# EAGLE library part TES5D-* (library _hhn_traco)
Traco(r) Power TES Dual Output Series 5 W DC/DC-Converters, SMD, 2:1 Input (TES 5-xx2y) Author: Dipl.-Ing. FH Rainer Bayer, Hochschule Heilbronn, rainer.bayer@hs-heilbronn.de Note: Applying supply symbols on VIN pins (defined direction is "Pwr") allows different input voltages with multiple converter devices, if needed) TRACO(r) Ordercode : Input V : Output V TES 5-1221 : 12 (9..18) : ±5.0 TES 5-1222 : 12 (9..18) : ±12 TES 5-1223 : 12 (18..36) : ±15 TES 5-2421 : 24 (18..36) : ±5.0 TES 5-2422 : 24 (18..36) : ±12 TES 5-2423 : 24 (18..36) : ±15 TES 5-4821 : 48 (36..75) : ±5.0 TES 5-4822 : 48 (36..75) : ±12 TES 5-4823 : 48 (36..75) : ±15
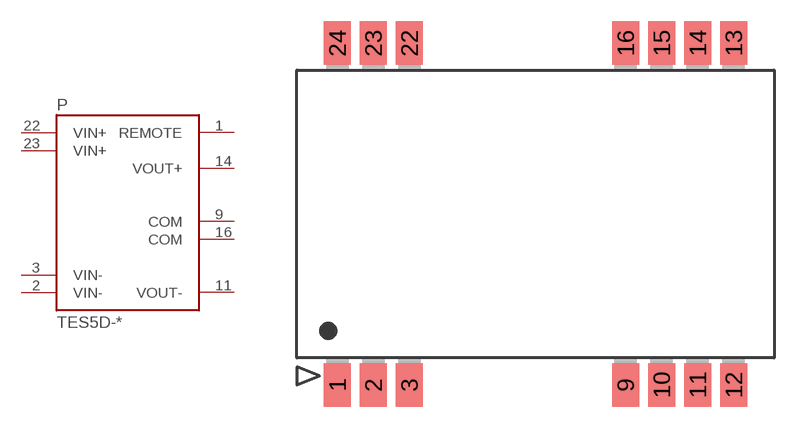
[diagram p1: symbol with the pads of TRACO_SMD_24; footprint TRACO_SMD_24]

Designator prefix P

## TES5D-1221, TES5D-1222, TES5D-1223, TES5D-2421, TES5D-2422, TES5D-2423, TES5D-4821, TES5D-4822, TES5D-4823, TES5D-GENERIC  [TRACO_SMD_24]
1  REMOTE  pas
2  VIN-  pwr
3  VIN-  pwr
9  COM  pas
11  VOUT-  pas
14  VOUT+  pas
16  COM  pas
22  VIN+  pwr
23  VIN+  pwr

## Footprint TRACO_SMD_24 (pad centres in mm)
smd 1.9 x 3.065: 1 -13.97,-12.065; 2 -11.43,-12.065; 3 -8.89,-12.065; 9 6.35,-12.065; 10 8.89,-12.065; 11 11.43,-12.065; 12 13.97,-12.065; 13 13.97,12.065; 14 11.43,12.065; 15 8.89,12.065; 16 6.35,12.065; 22 -8.89,12.065; 23 -11.43,12.065; 24 -13.97,12.065